# Altium schematic symbol library Schlib.SchLib: 11 symbols
Pins are listed as number, name and electrical type; pins without a type are passive.

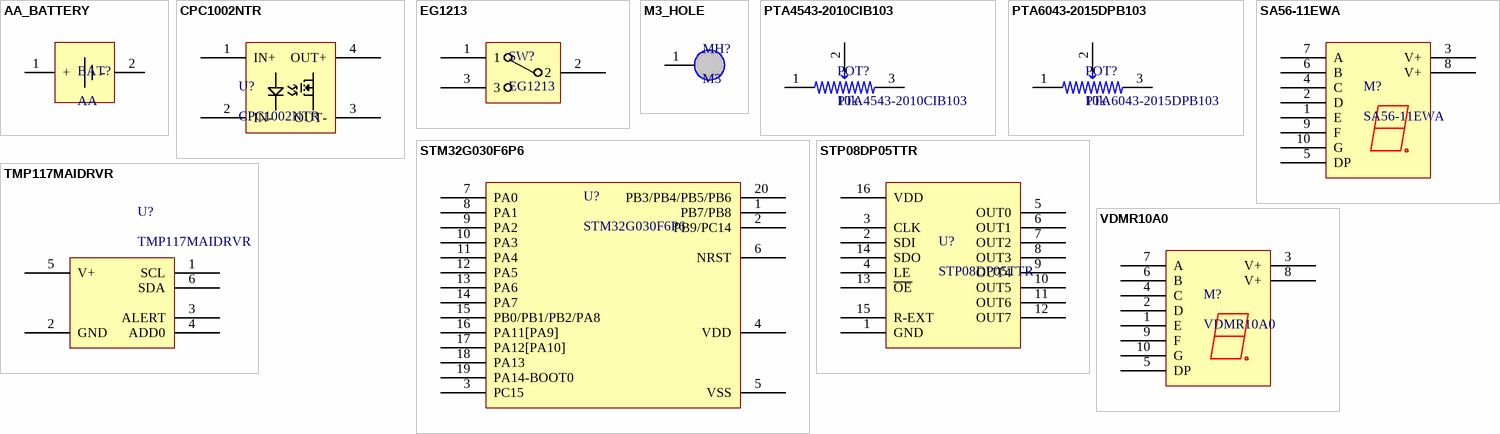
[diagram p0: symbols AA_BATTERY to VDMR10A0]

## AA_BATTERY
designator BAT?, comment AA
AA BATTERY; Supplier 1: Digi-Key; Supplier Part Number 1: 36-590-ND; Supplier Part Number 2: 36-596-ND
footprint AA_BATTERY
pins: 1 +, 2 -

## CPC1002NTR
designator U?
SSR RELAY SPST-NO 700MA 0-60V; Supplier 1: Digi-Key; Supplier Part Number 1: CLA230CT-ND
footprint CPC1002NTR (SSR RELAY SPST-NO 700MA 0-60V)
pins: 1 IN+, 2 IN-, 3 OUT-, 4 OUT+

## EG1213
designator SW?
SWITCH SLIDE SPDT 200MA 30V; Supplier 1: Digi-Key; Supplier Part Number 1: EG1906-ND
footprint EG1213 (SWITCH SLIDE SPDT 200MA 30V)
pins: 1, 2, 3

## M3_HOLE
designator MH?, comment M3  (no BOM)
M3 MOUNTING HOLE
footprint M3_HOLE
pins: 1

## PTA4543-2010CIB103
designator POT?  value 10k
SLIDE POT 10K OHM 0.25W TOP 45MM; Supplier Part Number 1: PTA6043-2015DPB103-ND; Supplier 1: Digi-Key
footprint PTA4543-2010CIB103 (SLIDE POT 10K OHM 0.25W TOP 45MM)
pins: 1, 2, 3

## PTA6043-2015DPB103
designator POT?  value 10k
SLIDE POT 10K OHM 0.25W TOP 60MM; Supplier Part Number 1: PTA6043-2015DPB103-ND; Supplier 1: Digi-Key
footprint PTA6043-2015DPB103 (SLIDE POT 10K OHM 0.25W TOP 60MM)
pins: 1, 2, 3

## SA56-11EWA
designator M?
DISPLAY 7SEG 0.56" SGL RED 10DIP; Supplier 1: Digi-Key; Supplier Part Number 1: 754-1458-5-ND
footprint SA56-11EWA (DISPLAY 7SEG 0.56" SGL RED 10DIP)
pins: 1 E, 2 D, 3 V+, 4 C, 5 DP, 6 B, 7 A, 8 V+, 9 F, 10 G

## STM32G030F6P6
designator U?
ARM MICROCONTROLLERS - MCU; Supplier 1: Digi-Key; Supplier Part Number 1: 497-STM32G030F6P6-ND
footprint TSOP65P640X120-20N (TSOP, 20-Leads, Body 6.50x4.40mm, Pitch 0.65mm, IPC Medium Density)
pins: 1 PB7/PB8, 2 PB9/PC14, 3 PC15, 4 VDD, 5 VSS, 6 NRST, 7 PA0, 8 PA1, 9 PA2, 10 PA3, 11 PA4, 12 PA5, 13 PA6, 14 PA7, 15 PB0/PB1/PB2/PA8, 16 PA11[PA9], 17 PA12[PA10], 18 PA13, 19 PA14-BOOT0, 20 PB3/PB4/PB5/PB6

## STP08DP05TTR
designator U?
IC LED DRIVER LIN 100MA 16TSSOP; Supplier 1: Digi-Key; Supplier Part Number 1: 497-6029-1-ND
footprint TSOP65P640X120-16N (TSOP, 16-Leads, Body 5.00x4.40mm, Pitch 0.65mm, IPC Medium Density)
pins: 1 GND, 2 SDI, 3 CLK, 4 LE, 5 OUT0, 6 OUT1, 7 OUT2, 8 OUT3, 9 OUT4, 10 OUT5, 11 OUT6, 12 OUT7, 13 ~{OE}, 14 SDO, 15 R-EXT, 16 VDD

## TMP117MAIDRVR
designator U?
TEMPERATURE SENSOR; Supplier Part Number 1: 296-51835-1-ND; Supplier 1: Digi-Key
footprint SON65P200X80_HS-7N (SON, 6-Leads, Body 2.00x2.00mm, Pitch 0.65mm, Thermal Pad 1.60x0.89mm, IPC Medium Density)
pins: 1 SCL, 2 GND, 3 ALERT, 4 ADD0, 5 V+, 6 SDA

## VDMR10A0
designator M?
DISPLAY 7SEG 0.39" SGL RED 10SMD; Supplier 1: Digi-Key; Supplier Part Number 1: VDMR10A0CT-ND
footprint VDMR10A0 (DISPLAY 7SEG 0.39" SGL RED 10SMD)
pins: 1 E, 2 D, 3 V+, 4 C, 5 DP, 6 B, 7 A, 8 V+, 9 F, 10 G